# Altium integrated library AO4411.IntLib: 1 symbol
Pins are listed as number, name and electrical type; pins without a type are passive.

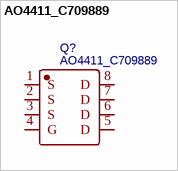
[diagram p0: symbol AO4411_C709889]

## AO4411_C709889
designator Q?
BOM_Manufacturer: VBsemi Elec; BOM_Manufacturer Part: AO4411; Contributor: LCSC; BOM_Supplier: LCSC; BOM_Supplier Part: C709889; BOM_JLCPCB Part Class: Extended Part; spicePre: Q; spiceSymbolName: AO4411_C709889
footprint SO-8_L4.9-W3.9-P1.27-LS5.9-BL
pins: 1 S, 2 S, 3 S, 4 G, 5 D, 6 D, 7 D, 8 D